# Altium schematic symbol library sch_library.SchLib: 27 symbols
Pins are listed as number, name and electrical type; pins without a type are passive.

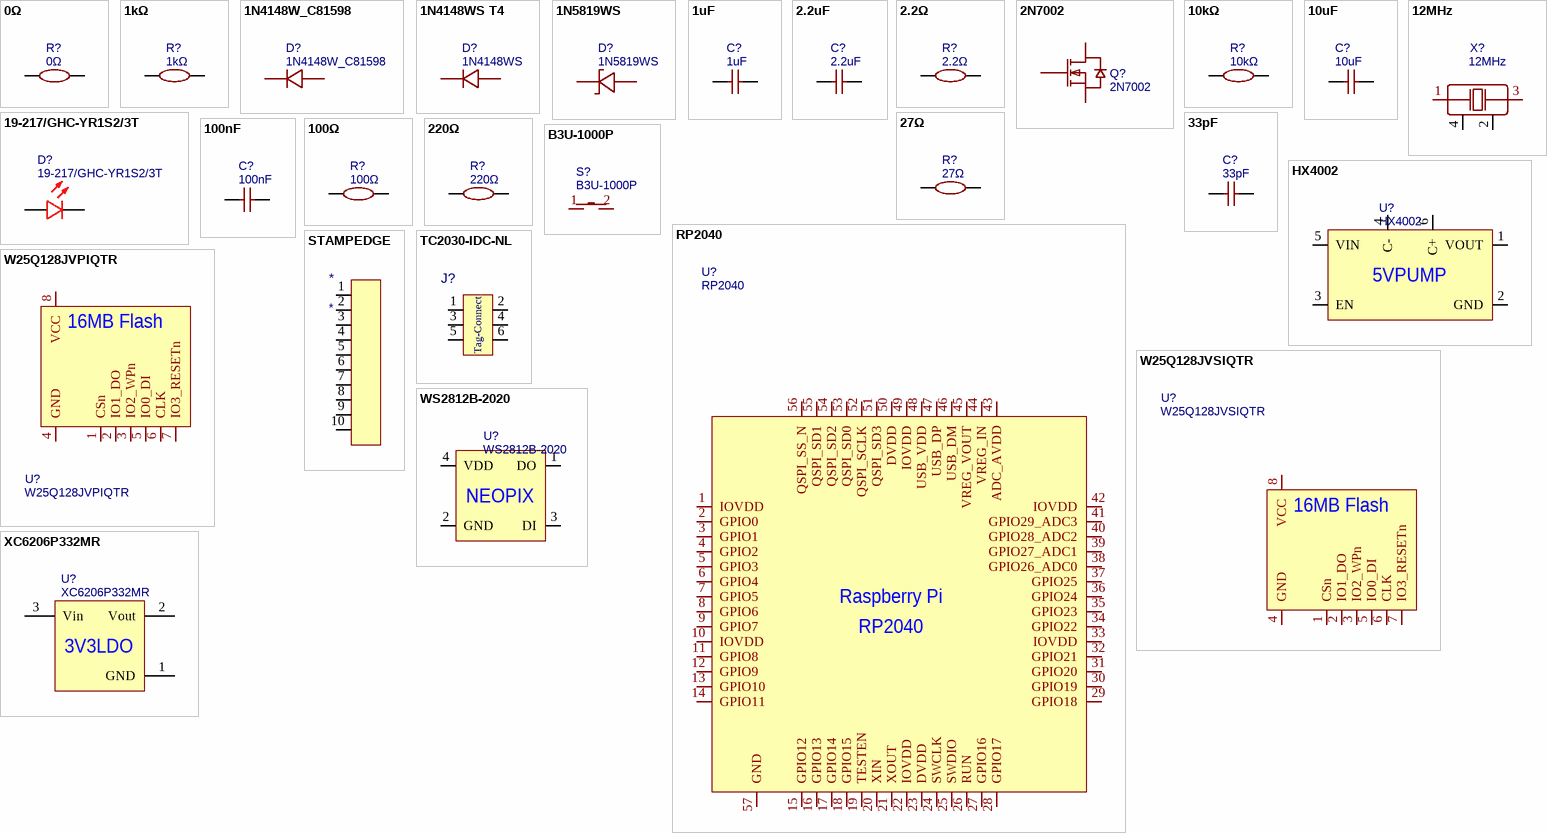
[diagram p0: symbols 0Ω to XC6206P332MR]

## 0Ω
designator R?
125mW Thick Film Resistors 150V ±1% ±800ppm/℃ -55℃~+155℃ 0mΩ 0805  Chip Resistor - Surface Mount ROHS; BOM_Manufacturer: UniOhm; BOM_Manufacturer Part: 0805W8F0000T5E; nameAlias: Resistance; Resistance (Ohms): 0; BOM_Supplier: LCSC; BOM_Supplier Part: C17477; BOM_JLCPCB Part Class: Basic Part; spicePre: R; spiceSymbolName: 0805W8F0000T5E
footprint R0805
pins: 1, 2

## 1kΩ
designator R?
1/16W Thick Film Resistors 50V ±1% ±100ppm/℃ -55℃~+155℃ 1kΩ 0402  Chip Resistor - Surface Mount ROHS; BOM_Manufacturer: UniOhm; BOM_Manufacturer Part: 0402WGF1001TCE; nameAlias: Resistance; Resistance (Ohms): 1K; BOM_Supplier: LCSC; BOM_Supplier Part: C11702; BOM_JLCPCB Part Class: Basic Part; spicePre: R; spiceSymbolName: 0402WGF1001TCE
footprint R0402
pins: 1, 2

## 1N4148W_C81598
designator D?
75V +150℃@(Tj) 400mW Single 1.25V@150mA 4ns 1μA@75V 150mA SOD-123  Switching Diode ROHS; BOM_Manufacturer: SEMTECH; BOM_Supplier: LCSC; BOM_Manufacturer Part: 1N4148W; BOM_Supplier Part: C81598; BOM_JLCPCB Part Class: Basic Part; spicePre: D; spiceSymbolName: 1N4148W_C81598
footprint SOD-123F_L2.7-W1.6-LS3.8-RD
pins: 1 K, 2 A

## 1N4148WS T4
designator D?, comment 1N4148WS
100V +150℃@(Tj) 200mW Single 1.25V@150mA 4ns 1μA@75V 150mA SOD-323  Switching Diode ROHS; BOM_Manufacturer: CJ; BOM_Manufacturer Part: 1N4148WS T4; BOM_Supplier: LCSC; BOM_Supplier Part: C2128; BOM_JLCPCB Part Class: Basic Part; spicePre: D; spiceSymbolName: 1N4148WS T4
footprint SOD-323_L1.8-W1.3-LS2.5-RD
pins: 1 K, 2 A

## 1N5819WS
designator D?
40V 600mV@1A 1A SOD-323  Schottky Barrier Diodes (SBD) ROHS; BOM_Manufacturer: Guangdong Hottech; Contributor: LCSC; BOM_Supplier: LCSC; BOM_Supplier Part: C191023; BOM_Manufacturer Part: 1N5819WS; BOM_JLCPCB Part Class: Basic Part; spicePre: D; spiceSymbolName: 1N5819WS
footprint SOD-323_L1.8-W1.3-LS2.5-RD
pins: 1 C, 2 A

## 1uF
designator C?
25V 1uF X5R ±10% 0402  Multilayer Ceramic Capacitors MLCC - SMD/SMT ROHS; BOM_Manufacturer: SAMSUNG; BOM_Manufacturer Part: CL05A105KA5NQNC; nameAlias: Capacitance; BOM_Supplier: LCSC; BOM_Supplier Part: C52923; BOM_JLCPCB Part Class: Basic Part; spicePre: C; spiceSymbolName: CL05A105KA5NQNC
footprint C0402
pins: 1, 2

## 2.2uF
designator C?
16V 2.2uF X5R ±10% 0603  Multilayer Ceramic Capacitors MLCC - SMD/SMT ROHS; BOM_Manufacturer Part: CL10A225KO8NNNC; BOM_Manufacturer: SAMSUNG; nameAlias: Capacitance; BOM_Supplier: LCSC; BOM_Supplier Part: C23630; BOM_JLCPCB Part Class: Basic Part; spicePre: C; spiceSymbolName: CL10A225KO8NNNC
footprint C0603
pins: 1, 2

## 2.2Ω
designator R?
1/10W Thick Film Resistors 75V ±1% ±400ppm/℃ -55℃~+155℃ 2.2Ω 0603  Chip Resistor - Surface Mount ROHS; BOM_Manufacturer: UniOhm; BOM_Manufacturer Part: 0603WAF220KT5E; nameAlias: Resistance; Resistance (Ohms): 2.2; BOM_Supplier: LCSC; BOM_Supplier Part: C22939; BOM_JLCPCB Part Class: Basic Part; spicePre: R; spiceSymbolName: 0603WAF220KT5E
footprint R0603
pins: 1, 2

## 2N7002
designator Q?
60V 115mA 200mW 7.5Ω@10V,500mA 2.5V@250μA N Channel SOT-23(SOT-23-3)  MOSFETs ROHS; BOM_Manufacturer: CJ; BOM_Supplier: LCSC; BOM_Manufacturer Part: 2N7002; BOM_Supplier Part: C8545; BOM_JLCPCB Part Class: Basic Part; spicePre: Q; spiceSymbolName: 2N7002
footprint SOT-23-3_L2.9-W1.3-P1.90-LS2.4-BR
pins: 1 G, 2 S, 3 D

## 10kΩ
designator R?
1/16W Thick Film Resistors 50V ±1% ±100ppm/℃ -55℃~+155℃ 10kΩ 0402  Chip Resistor - Surface Mount ROHS; BOM_Manufacturer: UniOhm; BOM_Manufacturer Part: 0402WGF1002TCE; nameAlias: Resistance; Resistance (Ohms): 10K; BOM_Supplier: LCSC; BOM_Supplier Part: C25744; BOM_JLCPCB Part Class: Basic Part; spicePre: R; spiceSymbolName: 0402WGF1002TCE
footprint R0402
pins: 1, 2

## 10uF
designator C?
X5R 25V ±20% 10uF 0603 Multilayer Ceramic Capacitors MLCC - SMD/SMT ROHS; BOM_Manufacturer: SAMSUNG; BOM_Manufacturer Part: CL10A106MA8NRNC; nameAlias: Capacitance; BOM_Supplier: LCSC; BOM_Supplier Part: C96446; BOM_JLCPCB Part Class: Basic Part; spicePre: C; spiceSymbolName: CL10A106MA8NRNC
footprint C0603
pins: 1, 2

## 12MHz
designator X?
12MHz SMD Crystal Resonator 20pF ±10ppm ±30ppm -40℃~+85℃ SMD3225-4P  Crystals ROHS; BOM_Manufacturer: YXC; BOM_Manufacturer Part: X322512MSB4SI; nameAlias: Frequency; BOM_Supplier: LCSC; BOM_Supplier Part: C9002; BOM_JLCPCB Part Class: Basic Part; spicePre: X; spiceSymbolName: X322512MSB4SI
footprint OSC-SMD_4P-L3.2-W2.5-BL
pins: 1 OSC1, 2 GND, 3 OSC2, 4 GND

## 19-217/GHC-YR1S2/3T
designator D?
20mA 285mcd 3.3V 518nm Colorless transparence -40℃~+85℃ 520nm~535nm Emerald 120° 110mW 0603  Light Emitting Diodes (LED) ROHS; BOM_Manufacturer: EVERLIGHT; BOM_Supplier: LCSC; BOM_Manufacturer Part: 19-217/GHC-YR1S2/3T; BOM_Supplier Part: C72043; BOM_JLCPCB Part Class: Basic Part; spicePre: L; spiceSymbolName: 19-217/GHC-YR1S2/3T
footprint LED0603-R-RD
pins: 1 A, 2 C

## 27Ω
designator R?
1/10W Thick Film Resistors 75V ±1% ±200ppm/℃ -55℃~+155℃ 27Ω 0603  Chip Resistor - Surface Mount ROHS; BOM_Manufacturer: UniOhm; BOM_Manufacturer Part: 0603WAF270JT5E; nameAlias: Resistance; Resistance (Ohms): 27; BOM_Supplier: LCSC; BOM_Supplier Part: C25190; BOM_JLCPCB Part Class: Basic Part; spicePre: R; spiceSymbolName: 0603WAF270JT5E
footprint R0603
pins: 1, 2

## 33pF
designator C?
50V 33pF C0G ±5% 0402  Multilayer Ceramic Capacitors MLCC - SMD/SMT ROHS; BOM_Manufacturer: FH; BOM_Manufacturer Part: 0402CG330J500NT; nameAlias: Capacitance; BOM_Supplier: LCSC; BOM_Supplier Part: C1562; BOM_JLCPCB Part Class: Basic Part; spicePre: C; spiceSymbolName: 0402CG330J500NT
footprint C0402
pins: 1, 2

## 100nF
designator C?
16V 100nF X7R ±10% 0402  Multilayer Ceramic Capacitors MLCC - SMD/SMT ROHS; BOM_Manufacturer Part: CL05B104KO5NNNC; BOM_Manufacturer: SAMSUNG; nameAlias: Capacitance; BOM_Supplier: LCSC; BOM_Supplier Part: C1525; BOM_JLCPCB Part Class: Basic Part; spicePre: C; spiceSymbolName: CL05B104KO5NNNC
footprint C0402
pins: 1, 2

## 100Ω
designator R?
1/16W Thick Film Resistors 50V ±1% ±200ppm/℃ -55℃~+155℃ 100Ω 0402  Chip Resistor - Surface Mount ROHS; BOM_Manufacturer: UniOhm; BOM_Manufacturer Part: 0402WGF1000TCE; nameAlias: Resistance; Resistance (Ohms): 100; BOM_Supplier: LCSC; BOM_Supplier Part: C25076; BOM_JLCPCB Part Class: Basic Part; spicePre: R; spiceSymbolName: 0402WGF1000TCE
footprint R0402
pins: 1, 2

## 220Ω
designator R?
1/16W Thick Film Resistors 50V ±1% ±100ppm/℃ -55℃~+155℃ 220Ω 0402  Chip Resistor - Surface Mount ROHS; BOM_Manufacturer: UniOhm; BOM_Manufacturer Part: 0402WGF2200TCE; nameAlias: Resistance; Resistance (Ohms): 220; BOM_Supplier: LCSC; BOM_Supplier Part: C25091; BOM_JLCPCB Part Class: Basic Part; spicePre: R; spiceSymbolName: 0402WGF2200TCE
footprint R0402
pins: 1, 2

## B3U-1000P
designator S?
2.5mm 1.6mm Round Button 50mA Brick nogging 3mm SPST 12V SMD,3x2.5x1.6mm  Tactile Switches ROHS; BOM_Manufacturer: Omron Electronics; Contributor: LCSC; BOM_Supplier: LCSC; BOM_Supplier Part: C231329; BOM_Manufacturer Part: B3U-1000P; BOM_JLCPCB Part Class: Extended Part; spicePre: S; spiceSymbolName: B3U-1000P
footprint KEY-SMD_B3U-1000PM
pins: 1, 2

## HX4002
designator U?
NO Charge pump 1 5V 2.7V~5.5V 250mA 1.2MHz SOT-23-6  DC-DC Converters ROHS; BOM_Manufacturer: HEXIN; Contributor: LCSC; BOM_Supplier: LCSC; BOM_Manufacturer Part: HX4002; BOM_Supplier Part: C172354; BOM_JLCPCB Part Class: Extended Part; spicePre: U; spiceSymbolName: HX4002
footprint SOT-23-6_L2.9-W1.6-P0.95-LS2.8-BR
pins: 1 VOUT, 2 GND, 3 EN, 4 C-, 5 VIN, 6 C+
text: 5VPUMP

## RP2040
designator U?
ARM Cortex-M0 1@x4ch/12bit USB Host/Device 2 264KB 2 133MHz 30 2 QFN-56(7x7)  Microcontroller Units (MCUs/MPUs/SOCs) ROHS; BOM_Manufacturer: Raspberry Pi(树莓派); Contributor: LCSC; BOM_Supplier: LCSC; BOM_Supplier Part: C2040; BOM_Manufacturer Part: RP2040; BOM_JLCPCB Part Class: Extended Part; spicePre: U; spiceSymbolName: RP2040
footprint LQFN-56_L7.0-W7.0-P0.4-EP
pins: 1 IOVDD, 2 GPIO0, 3 GPIO1, 4 GPIO2, 5 GPIO3, 6 GPIO4, 7 GPIO5, 8 GPIO6, 9 GPIO7, 10 IOVDD, 11 GPIO8, 12 GPIO9, 13 GPIO10, 14 GPIO11, 15 GPIO12, 16 GPIO13, 17 GPIO14, 18 GPIO15, 19 TESTEN, 20 XIN, 21 XOUT, 22 IOVDD, 23 DVDD, 24 SWCLK, 25 SWDIO, 26 RUN, 27 GPIO16, 28 GPIO17, 29 GPIO18, 30 GPIO19, 31 GPIO20, 32 GPIO21, 33 IOVDD, 34 GPIO22, 35 GPIO23, 36 GPIO24, 37 GPIO25, 38 GPIO26_ADC0, 39 GPIO27_ADC1, 40 GPIO28_ADC2, 41 GPIO29_ADC3, 42 IOVDD, 43 ADC_AVDD, 44 VREG_IN, 45 VREG_VOUT, 46 USB_DM, 47 USB_DP, 48 USB_VDD, 49 IOVDD, 50 DVDD, 51 QSPI_SD3, 52 QSPI_SCLK, 53 QSPI_SD0, 54 QSPI_SD2, 55 QSPI_SD1, 56 QSPI_SS_N, 57 GND
text: Raspberry Pi

## STAMPEDGE
designator *  (no BOM)
RP2040 ISP Stamp Castellations
footprint CASTELLATIONS
pins: 1, 2, 3, 4, 5, 6, 7, 8, 9, 10

## TC2030-IDC-NL
designator J?  (value not drawn)  (no BOM)
Tag-Connect 6-Pin No Legs
footprint TC2030-IDC-NL (Tag Connect 6-Pin No Legs)
pins: 1, 2, 3, 4, 5, 6
text: Tag-Connect

## W25Q128JVPIQTR
designator U?
WSON-8_5x6mm  NOR FLASH ROHS; BOM_Manufacturer: Winbond Elec; Contributor: LCSC; BOM_Supplier: LCSC; BOM_Supplier Part: C190862; BOM_Manufacturer Part: W25Q128JVPIQTR; BOM_JLCPCB Part Class: Extended Part; spicePre: U; spiceSymbolName: W25Q128JVPIQTR
footprint WSON-8_L6.0-W5.0-P1.27-BL
pins: 1 CSn, 2 IO1_DO, 3 IO2_WPn, 4 GND, 5 IO0_DI, 6 CLK, 7 IO3_RESETn, 8 VCC
text: 16MB Flash

## W25Q128JVSIQTR
designator U?
SOIC-8_208mil  NOR FLASH ROHS; BOM_Manufacturer: WINBOND; BOM_Supplier: LCSC; BOM_Manufacturer Part: W25Q128JVSIQTR; BOM_Supplier Part: C97521; BOM_JLCPCB Part Class: Basic Part; spicePre: U; spiceSymbolName: W25Q128JVSIQTR
footprint SOIC-8_L5.3-W5.3-P1.27-LS8.0-BL
pins: 1 CSn, 2 IO1_DO, 3 IO2_WPn, 4 GND, 5 IO0_DI, 6 CLK, 7 IO3_RESETn, 8 VCC
text: 16MB Flash

## WS2812B-2020
designator U?
5mA 5.3V -25℃~+85℃ RGB SMD,2x2mm  Light Emitting Diodes (LED) ROHS; BOM_Manufacturer: Worldsemi; Contributor: LCSC; BOM_Supplier: LCSC; BOM_Supplier Part: C965555; BOM_Manufacturer Part: WS2812B-2020; BOM_JLCPCB Part Class: Extended Part; spicePre: L; spiceSymbolName: WS2812B-2020
footprint LED-SMD_4P-L2.0-W2.0-TL_WS2812B-2020
pins: 1 DO, 2 GND, 3 DI, 4 VDD
text: NEOPIX

## XC6206P332MR
designator U?
200mA 680mV@(100mA) Fixed 3.3V~3.3V Positive 1 6V SOT-23-3L  Linear Voltage Regulators (LDO) ROHS; BOM_Manufacturer: TOREX; BOM_Supplier: LCSC; BOM_Manufacturer Part: XC6206P332MR; BOM_Supplier Part: C5446; BOM_JLCPCB Part Class: Basic Part; spicePre: U; spiceSymbolName: XC6206P332MR
footprint SOT-23-3_L2.9-W1.6-P1.90-LS2.8-BR
pins: 1 GND, 2 Vout, 3 Vin
text: 3V3LDO